# Altium schematic symbol library DRV2605LDGST.SchLib: 1 symbol
Pins are listed as number, name and electrical type; pins without a type are passive.

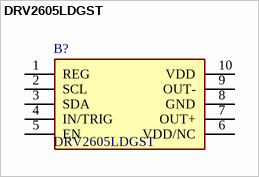
[diagram p0: symbol DRV2605LDGST]

## DRV2605LDGST
designator B?
ERM & LRA Device Haptic Driver 2-5V BGA9 Texas Instruments DRV2605LDGST Piezo Haptic Motor Driver IC, 5 V, 10-Pin VSSOP; Geometry.Height: 1.1mm; Manufacturer_Name: Texas Instruments; Manufacturer_Part_Number: DRV2605LDGST; Mouser Part Number: 595-DRV2605LDGST; Mouser Price/Stock: https://www.mouser.co.uk/ProductDetail/Texas-Instruments/DRV2605LDGST?qs=asCBFxFfL1TjvcNdZsR2BA%3D%3D; Arrow Part Number: DRV2605LDGST; Arrow Price/Stock: https://www.arrow.com/en/products/drv2605ldgst/texas-instruments?region=nac; Datasheet Link: http://www.ti.com/lit/ds/symlink/drv2605l.pdf
footprint SOP50P490X110-10N
pins: 1 REG, 2 SCL, 3 SDA, 4 IN/TRIG, 5 EN, 6 VDD/NC, 7 OUT+, 8 GND, 9 OUT-, 10 VDD